# Altium footprint library Jason_PCB Library.PcbLib: 24 footprints (part 2 of 2)
Each footprint in its own frame and in the unit in brackets; x right, y up, seen from the top. Pads: shape width x height; smd on the part's side, far side on the other; paste and mask are expansions set on the pad; w line width, h text height; cw(c..) or ccw(c..) is an arc to the next point about the centre after c.
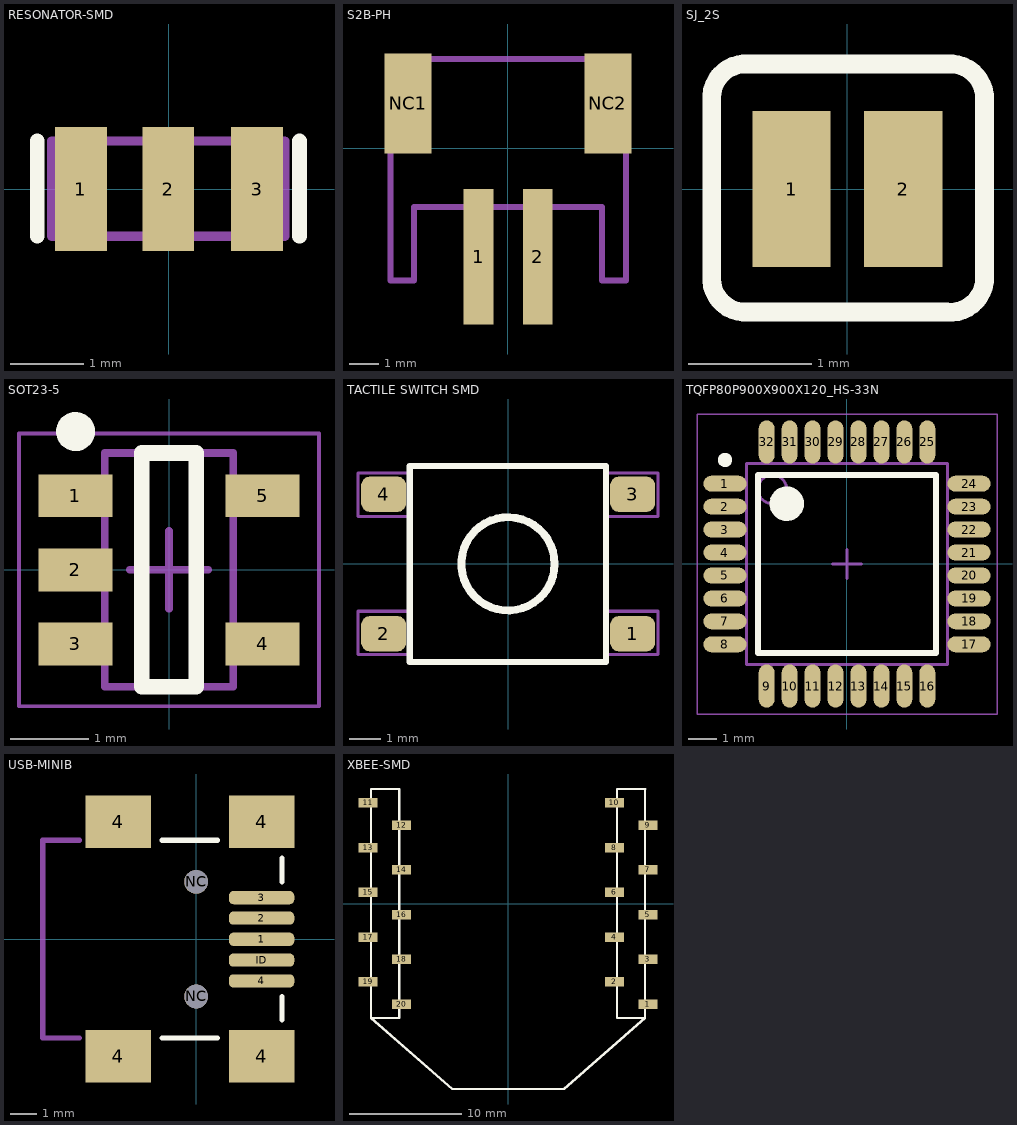
[diagram p1: the footprints below, top view; thin cyan lines are the x and y axes]

## RESONATOR-SMD [mil] "RESONATOR-SMD"
pads (3):
  rect 28x67 smd: 1(-47.62,0) 2(-0.38,0) 3(47.62,0)
Top Overlay:
  lines w8: -71.24,-25.59 -71.24,26 ; 70.62,-25.59 70.62,26
Mechanical 16:
  lines w5: -63.37,-25.59 -63.37,26 62.62,26 62.62,-25.59 -63.37,-25.59

## S2B-PH [mil] "S2B-PH"
pads (4):
  rect 40x182 smd: 1(-39.37,-145.67) 2(40,-145.67)
  rect 63x134 smd: NC1(-133.86,60) NC2(134,60)
Mechanical 16:
  lines w8: -157.48,-177.17 -125.98,-177.17 -125.98,-78.74 126,-78.74 126,-177.17 158,-177.17 158,119 -157.48,119 -157.48,-177.17
  text "-" at -115,-175 h77.5
  text "+" at 85,-175 h77.5
3D body "JST-2-SMD.SLDPRT": height 217.02, standoff 0.48, extent -155.51,-230.47 155.51,110.17

## SJ_2S [mm] "SJ_2S"
pads (2):
  rect 0.635x1.27 smd: 1(-0.45,0) 2(0.457,0)
Top Overlay:
  lines w0.152: -1.1,-0.75 ccw(c-0.825,-0.725) -0.8,-1 0.813,-1 ccw(c0.84,-0.723) 1.118,-0.75 1.118,0.762 ccw(c0.838,0.737) 0.813,1.016 -0.8,1.016 ccw(c-0.823,0.739) -1.1,0.762 -1.1,-0.75
Top Paste:
  rectangle: -1.219,-1.143 1.219,1.143

## SOT23-5 [mm] "SOT23, 5-Leads, Body 3x1.65mm, Pitch 0.95mm, IPC Medium Density"
height 1.1
pads (5):
  rect 0.95x0.55 smd: 1(-1.2,0.95) 2(-1.2,0) 3(-1.2,-0.95) 4(1.2,-0.95) 5(1.2,0.95)
Top Overlay:
  circle w0.25: c-1.2,1.775 r0.125
  lines w0.2: -0.35,-1.5 -0.35,1.5 0.35,1.5 0.35,-1.5 -0.35,-1.5
Mechanical 13:
  lines w0.1: -0.825,-1.5 0.825,-1.5 0.825,1.5 -0.825,1.5 -0.825,-1.5
Mechanical 15:
  lines w0.05: -1.925,-1.75 1.925,-1.75 1.925,1.75 -1.925,1.75 -1.925,-1.75
  lines w0.1: -0.5,0 0.5,0 ; 0,-0.5 0,0.5
3D body "SOT23-5-2.SLDPRT": height 1.45, standoff 0, extent -1.4,-1.45 1.4,1.45

## TACTILE SWITCH SMD [mm] "Switch, Through-Hole, 4 Leads, Body 8.5x8.5mm, Row Spacing 9.0mm, Pitch 4.5mm"
pads (4):
  rrect50% 1.448x1.143 smd: 1(4.01,-2.25) 2(-4,-2.25) 3(4.01,2.24) 4(-4,2.24)
Top Overlay:
  circle w0.254: c0,0 r1.5
  lines w0.2: -3.16,-3.16 -3.16,3.15 3.15,3.15 3.15,-3.16 -3.16,-3.16
Mechanical 7:
  circle w0.1: c0,0 r1.5
  lines w0.1: -3.16,-2.921 -4.826,-2.921 -4.826,-1.524 -3.16,-1.524 ; -3.16,1.524 -4.826,1.524 -4.826,2.921 -3.16,2.921 ; 3.15,-2.921 4.826,-2.921 4.826,-1.524 3.15,-1.524 ; 3.15,1.524 4.826,1.524 4.826,2.921 3.15,2.921 ; -3.16,-3.16 3.15,-3.16 3.15,3.15 -3.16,3.15 -3.16,-3.16
  text ".Comment" at -2.9,-2.6 h1.2
  text ".Designator" at -2.9,2.1 h1.2
3D body "Switch SPNO - DTSM-6.stp": height 4.5, standoff 0, extent -4.5,-3.1 4.5,3.1

## TQFP80P900X900X120_HS-33N [mm] "TQFP, 32-Leads, Body 7.00x7.00mm, Pitch 0.80mm, Thermal Pad 0.00x0.00mm, IPC Medium Density"
height 1.2
pads (32):
  oval 1.5x0.55 smd: 1(-4.25,2.8) 2(-4.25,2) 3(-4.25,1.2) 4(-4.25,0.4) 5(-4.25,-0.4) 6(-4.25,-1.2) 7(-4.25,-2) 8(-4.25,-2.8) 17(4.25,-2.8) 18(4.25,-2) 19(4.25,-1.2) 20(4.25,-0.4) 21(4.25,0.4) 22(4.25,1.2) 23(4.25,2) 24(4.25,2.8)
  oval 0.55x1.5 smd: 9(-2.8,-4.25) 10(-2,-4.25) 11(-1.2,-4.25) 12(-0.4,-4.25) 13(0.4,-4.25) 14(1.2,-4.25) 15(2,-4.25) 16(2.8,-4.25) 25(2.8,4.25) 26(2,4.25) 27(1.2,4.25) 28(0.4,4.25) 29(-0.4,4.25) 30(-1.2,4.25) 31(-2,4.25) 32(-2.8,4.25)
Top Overlay:
  circle w0.6: c-2.1,2.1 r0.3
  circle w0.25: c-4.25,3.625 r0.125
  lines w0.2: -3.1,-3.1 3.1,-3.1 3.1,3.1 -3.1,3.1 -3.1,-3.1
Mechanical 13:
  circle w0.1: c-2.6,2.6 r0.5
  lines w0.1: -3.5,-3.5 3.5,-3.5 3.5,3.5 -3.5,3.5 -3.5,-3.5
Mechanical 15:
  lines w0.05: -5.225,-5.225 5.225,-5.225 5.225,5.225 -5.225,5.225 -5.225,-5.225
  lines w0.1: -0.5,0 0.5,0 ; 0,-0.5 0,0.5
3D body "TQFP80P900X900X120_HS-33N.step": height 1.2, standoff 0, extent -4.5,-4.5 4.5,4.5

## USB-MINIB [mil] "USB-MINIB"
pads (11):
  rrect70% 99x20 smd: 1(99,0) 2(99,32) 3(99,63) 4(99,-62.99) ID(99,-31.5)
  rect 99x79 smd: 4(-118.11,-177.17) 4(-118.11,178) 4(99,-177.17) 4(99,178)
  round 36 hole 36: NC(0,-86.61) NC(0,87)
Top Overlay:
  lines w8: -51.18,-149.61 32,-149.61 ; -51.18,150 32,150 ; 130,-122.05 130,-86.61 ; 130,87 130,123
Top Paste:
  lines w20: 140,-62.7 150,-62.7 ; 140,-31.4 150,-31.4 ; 140,-0.1 150,-0.1 ; 140,32 150,32 ; 140,63 150,63
Mechanical 16:
  lines w8: -177.17,-149.61 -232.28,-149.61 -232.28,150 -177.17,150
3D body "Mini USB B.SLDPRT": height 154.02, standoff -38.89, extent -231.7,-189.39 132.47,188.57

## XBEE-SMD [mil] "XBEE-SMD"
pads (20):
  rect 67x34 smd: 1(492.56,-354.5) 2(374.45,-275.5) 3(492.56,-196.5) 4(374.45,-118.5) 5(492.56,-39.5) 6(374.45,39.5) 7(492.56,118.5) 8(374.45,196.5) 9(492.56,275.5) 10(374.45,354.5) 11(-492.56,354.5) 12(-374.56,275.5) 13(-492.56,196.5) 14(-374.56,118.5) 15(-492.56,39.5) 16(-374.56,-39.5) 17(-492.56,-118.5) 18(-374.56,-196.5) 19(-492.56,-275.5) 20(-374.56,-354.5)
Top Overlay:
  lines w8: 482.72,403.5 482.72,-403.5 ; 483.3,403.5 384.3,403.5 384.3,-403.5 482.72,-403.5 ; -482.56,-403.5 -196.56,-653.5 197.29,-653.5 482.72,-403.5 ; -482.56,-403.5 -482.56,403.5 -383.56,403.5 -383.56,-403.5 -482.56,-403.5
3D body "XBEE Adapter.SLDPRT": height 174.12, standoff 0.5, extent -480,-407.08 479.76,400